# EAGLE library part SN74AHCT125D (library SN74AHCT125D)
Check prices <https://snapeda.com/parts/SN74AHCT125D/Texas%20Instruments/view-part/?ref=eda>
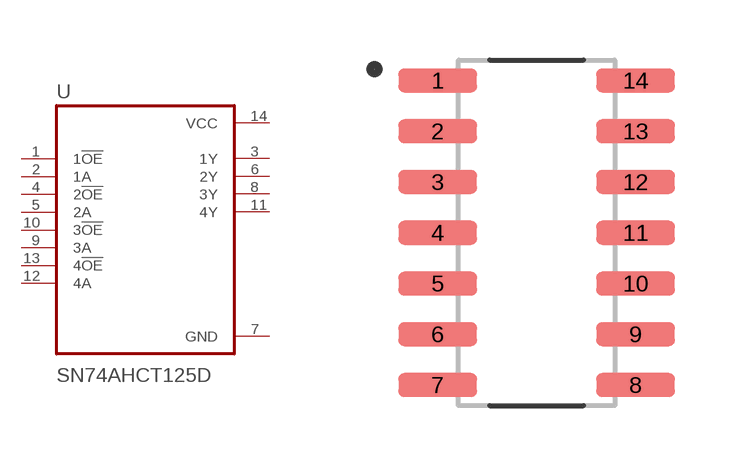
[diagram p0: symbol with the pads of SOIC127P600X175-14N; footprint SOIC127P600X175-14N]

Designator prefix U

## SN74AHCT125D (Arrow_Electronics-Purchase-URL: https://snapeda.com/shop?store=Arrow+Electronics&id=359107; Availability: Good; Description: Quadruple Bus Buffer Gates With 3-State Outputs 14-SOIC -40 to 125; DigiKey-Purchase-URL: https://snapeda.com/shop?store=DigiKey&id=359107; MF: Texas Instruments; MP: SN74AHCT125D; Mouser-Purchase-URL: https://snapeda.com/shop?store=Mouser&id=359107; Package: SOIC-14 Texas Instruments; Price: None; Texas_Instruments-Purchase-URL: https://snapeda.com/shop?store=Texas+Instruments&id=359107)  [SOIC127P600X175-14N]
1  1!OE  in
2  1A  in
3  1Y  out
4  2!OE  in
5  2A  in
6  2Y  out
7  GND  pwr
8  3Y  out
9  3A  in
10  3!OE  in
11  4Y  out
12  4A  in
13  4!OE  in
14  VCC  pwr

## Footprint SOIC127P600X175-14N (pad centres in mm)
smd 1.97 x 0.6: 1 -2.475,3.81; 2 -2.475,2.54; 3 -2.475,1.27; 4 -2.475,0; 5 -2.475,-1.27; 6 -2.475,-2.54; 7 -2.475,-3.81; 8 2.475,-3.81; 9 2.475,-2.54; 10 2.475,-1.27; 11 2.475,0; 12 2.475,1.27; 13 2.475,2.54; 14 2.475,3.81